# EAGLE library part 612X1420621 (library Wurth_Elektronik_Electromechanic_Wire_to_Board_Connectors_rev16a)
WR-BHD 2.54mm Male SMT Box Header High Temperature, 14 Pins=>Code : Con_WTB_BHD_2.54_Male_SMT_612X1420621 <http://katalog.we-online.de/media/thumbs2/eican/thb_Con_WTB_BHD_2.54_Male_SMT_6120xx20621_pf2.jpg> Details see: http://katalog.we-online.de/en/em/612_0xx_206_21 Created 2014-06-05, Karrer Zheng 2014 (C) Würth Elektronik
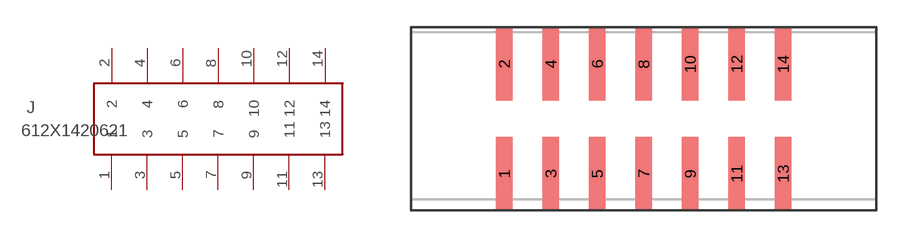
[diagram p103: symbol with the pads of 612X1420621; footprint 612X1420621]

Designator prefix J

## 612X1420621  [612X1420621]
1  1  pas
2  2  pas
3  3  pas
4  4  pas
5  5  pas
6  6  pas
7  7  pas
8  8  pas
9  9  pas
10  10  pas
11  11  pas
12  12  pas
13  13  pas
14  14  pas

## Footprint 612X1420621 (pad centres in mm)
WR-BHD 2.54mm Male SMT Box Header High Temperature, 14 pins
smd 0.9 x 4: 1 -5.08,-3; 2 -5.08,3; 3 -2.54,-3; 4 -2.54,3; 5 0,-3; 6 0,3; 7 2.54,-3; 8 2.54,3; 9 5.08,-3; 10 5.08,3; 11 7.62,-3; 12 7.62,3; 13 10.16,-3; 14 10.16,3